# Altium schematic symbol library SD_CARD_KYOCERA.SchLib: 1 symbol
Pins are listed as number, name and electrical type; pins without a type are passive.

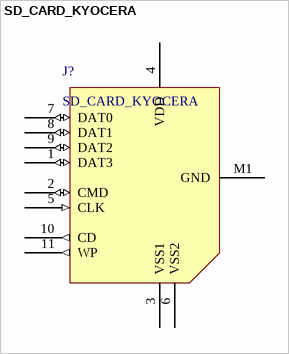
[diagram p0: symbol SD_CARD_KYOCERA]

## SD_CARD_KYOCERA
designator J?
pins: 1 DAT3 (io), 2 CMD (io), 3 VSS1 (power), 4 VDD (power), 5 CLK (in), 6 VSS2 (power), 7 DAT0 (io), 8 DAT1 (io), 9 DAT2 (io), 10 CD (out), 11 WP (out), M1 GND (power)